# Altium footprint library SWITCH_SPST.PcbLib: 1 footprints
Each footprint in its own frame and in the unit in brackets; x right, y up, seen from the top. Pads: shape width x height; smd on the part's side, far side on the other; paste and mask are expansions set on the pad; w line width, h text height; cw(c..) or ccw(c..) is an arc to the next point about the centre after c.
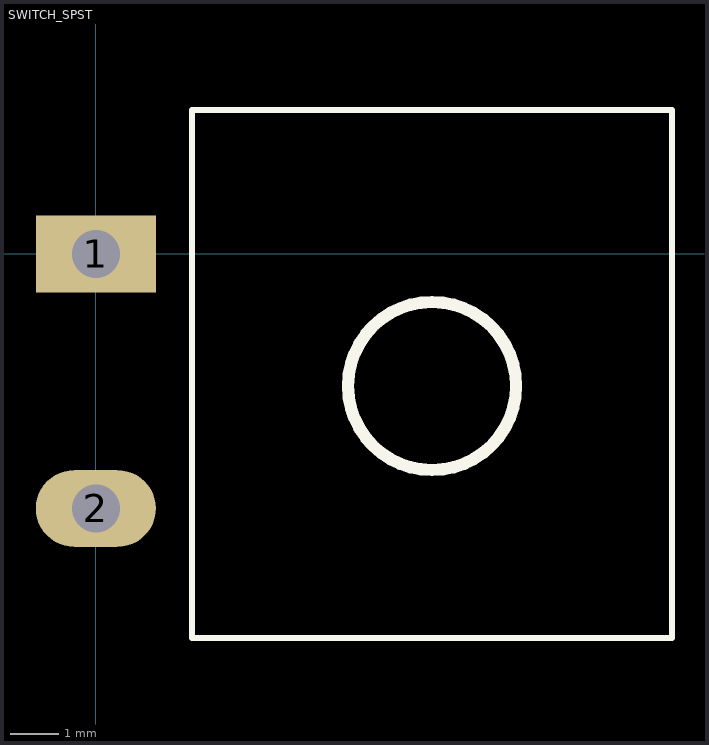
[diagram p0: the footprint, top view; thin cyan lines are the x and y axes]

## SWITCH_SPST [mm]
pads (2):
  rect 2.5x1.6 hole 1: 1(0,0)
  oval 2.5x1.6 hole 1: 2(0,-5.3)
Top Overlay:
  circle w0.254: c7,-2.75 r1.75
  lines w0.127: 2,-8 12,-8 12,3 2,3 2,-8